# Altium footprint library Comms Board Small Footprints.PcbLib: 7 footprints
Each footprint in its own frame and in the unit in brackets; x right, y up, seen from the top. Pads: shape width x height; smd on the part's side, far side on the other; paste and mask are expansions set on the pad; w line width, h text height; cw(c..) or ccw(c..) is an arc to the next point about the centre after c.
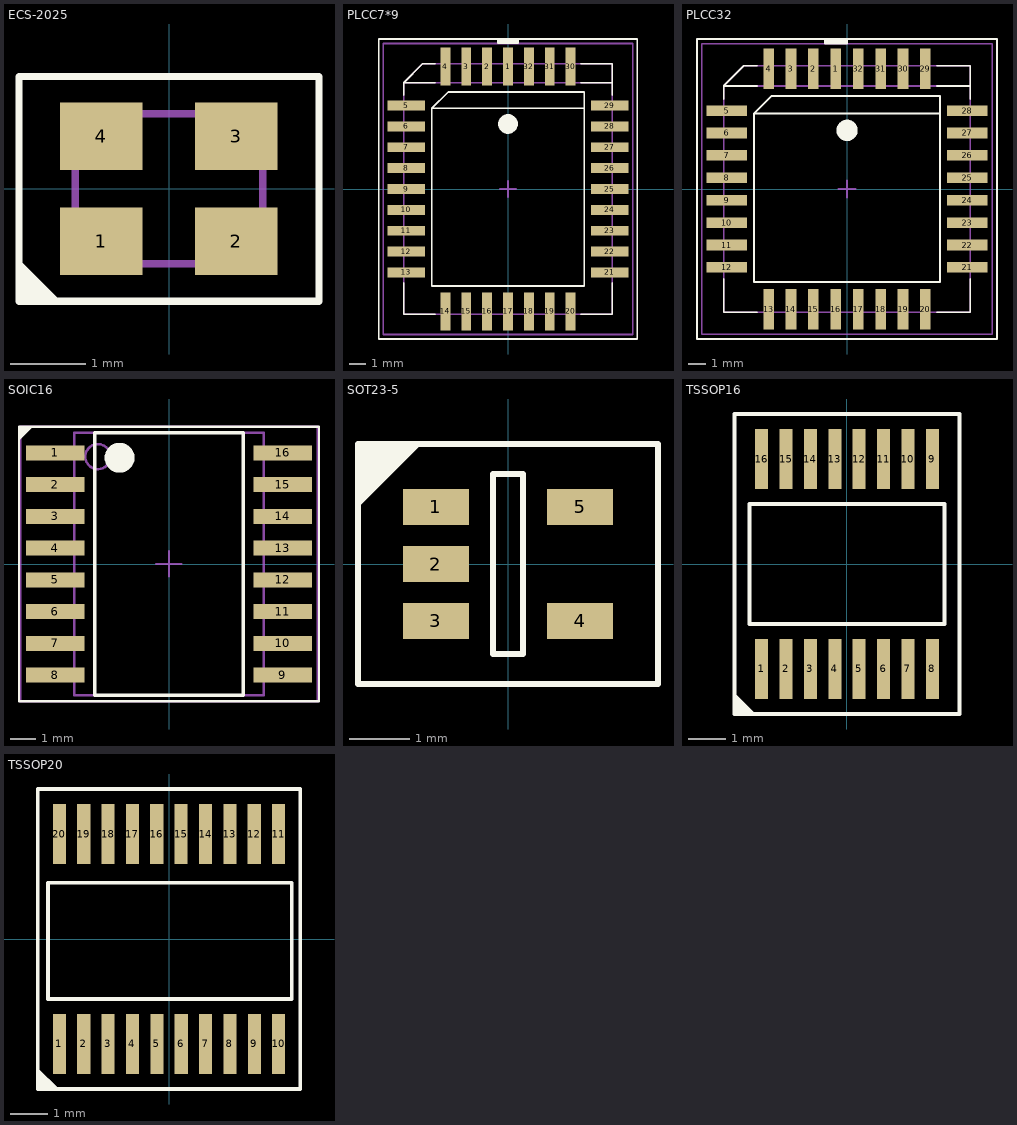
[diagram p0: the footprints below, top view; thin cyan lines are the x and y axes]

## ECS-2025 [mm] "SMD Clock Oscillator"
pads (4):
  rect 1.1x0.9 smd: 1(-0.9,-0.7) 2(0.9,-0.7) 3(0.9,0.7) 4(-0.9,0.7)
Top Overlay:
  region: -2,-1 -2,-1.5 -1.5,-1.5
  lines w0.1: -2,-1 -1.5,-1.5 ; -2,-1.5 -2,1.5 2,1.5 2,-1.5 -2,-1.5
Mechanical 13:
  lines w0.1: -1.25,-1 1.25,-1 1.25,1 -1.25,1 -1.25,-1
3D body: height 0.9, standoff 0.05, extent -1.25,-1 1.25,1

## PLCC7*9 [mm] "PLCC, 32-Leads, Body 15.1x15.1mm (max), Pitch 1.270mm, IPC Medium Density"
height 3.556
pads (32):
  rect 0.6x2.3 smd: 1(0,7.46) 2(-1.27,7.46) 3(-2.54,7.46) 4(-3.81,7.46) 14(-3.81,-7.46) 15(-2.54,-7.46) 16(-1.27,-7.46) 17(0,-7.46) 18(1.27,-7.46) 19(2.54,-7.46) 20(3.81,-7.46) 30(3.81,7.46) 31(2.54,7.46) 32(1.27,7.46)
  rect 2.3x0.6 smd: 5(-6.19,5.08) 6(-6.19,3.81) 7(-6.19,2.54) 8(-6.19,1.27) 9(-6.19,0) 10(-6.19,-1.27) 11(-6.19,-2.54) 12(-6.19,-3.81) 13(-6.19,-5.08) 21(6.19,-5.08) 22(6.19,-3.81) 23(6.19,-2.54) 24(6.19,-1.27) 25(6.19,0) 26(6.19,1.27) 27(6.19,2.54) 28(6.19,3.81) 29(6.19,5.08)
Top Overlay:
  circle w0.6: c0,3.96 r0.3
  region: 0.635,8.885 0.635,9.135 -0.615,9.135 -0.615,8.885
  lines w0.1: -6.35,-5.715 -6.35,-7.62 -4.445,-7.62 ; -6.35,5.715 -6.35,6.477 ; -4.445,6.477 -6.35,6.477 ; -4.445,7.62 -5.207,7.62 -6.35,6.477 ; 4.445,-7.62 6.35,-7.62 6.35,-5.715 ; 4.445,6.477 6.35,6.477 ; 4.445,7.62 6.35,7.62 6.35,5.715 ; 4.615,4.91 -4.64,4.91 ; -4.64,4.91 -3.64,5.91 ; -4.64,4.91 -3.64,5.91 ; -4.64,4.91 -4.64,-5.91 4.64,-5.91 4.64,5.91 -3.64,5.91 ; -7.865,-9.135 7.865,-9.135 7.865,9.135 -7.865,9.135 -7.865,-9.135 ; -0.615,8.885 -0.615,9.135 0.635,9.135 0.635,8.885 -0.615,8.885
Mechanical 13:
  lines w0.1: 6.35,6.477 -6.35,6.477 ; -6.35,6.477 -5.207,7.62 6.35,7.62 6.35,-7.62 -6.35,-7.62 -6.35,6.477
Mechanical 15:
  lines w0.1: -0.492,0 0.508,0 ; 0,-0.5 0,0.5 ; -7.59,-8.86 7.59,-8.86 7.59,8.86 -7.59,8.86 -7.59,-8.86
3D body: height 3.56, standoff 0.38, extent -6.35,-7.62 6.35,7.62

## PLCC32 [mm] "PLCC, 32-Leads, Body 15.1x15.1mm (max), Pitch 1.270mm, IPC Medium Density"
height 3.556
pads (32):
  rect 0.6x2.3 smd: 1(-0.635,6.825) 2(-1.905,6.825) 3(-3.175,6.825) 4(-4.445,6.825) 13(-4.445,-6.825) 14(-3.175,-6.825) 15(-1.905,-6.825) 16(-0.635,-6.825) 17(0.635,-6.825) 18(1.905,-6.825) 19(3.175,-6.825) 20(4.445,-6.825) 29(4.445,6.825) 30(3.175,6.825) 31(1.905,6.825) 32(0.635,6.825)
  rect 2.3x0.6 smd: 5(-6.825,4.445) 6(-6.825,3.175) 7(-6.825,1.905) 8(-6.825,0.635) 9(-6.825,-0.635) 10(-6.825,-1.905) 11(-6.825,-3.175) 12(-6.825,-4.445) 21(6.825,-4.445) 22(6.825,-3.175) 23(6.825,-1.905) 24(6.825,-0.635) 25(6.825,0.635) 26(6.825,1.905) 27(6.825,3.175) 28(6.825,4.445)
Top Overlay:
  circle w0.6: c0,3.325 r0.3
  region: 0,8.25 0,8.5 -1.25,8.5 -1.25,8.25
  lines w0.1: -6.985,-5.08 -6.985,-6.985 -5.08,-6.985 ; -6.985,5.08 -6.985,5.842 ; -5.08,5.842 -6.985,5.842 ; -5.08,6.985 -5.842,6.985 -6.985,5.842 ; 5.08,-6.985 6.985,-6.985 6.985,-5.08 ; 5.08,5.842 6.985,5.842 ; 5.08,6.985 6.985,6.985 6.985,5.08 ; 5.275,4.275 -5.275,4.275 ; -5.275,4.275 -4.275,5.275 5.275,5.275 5.275,-5.275 -5.275,-5.275 -5.275,4.275 ; -8.5,-8.5 -8.5,8.5 8.5,8.5 8.5,-8.5 -8.5,-8.5 ; -1.25,8.25 -1.25,8.5 0,8.5 0,8.25 -1.25,8.25
Mechanical 13:
  lines w0.1: 6.985,5.842 -6.985,5.842 ; -6.985,5.842 -5.842,6.985 6.985,6.985 6.985,-6.985 -6.985,-6.985 -6.985,5.842
Mechanical 15:
  lines w0.1: -0.5,0 0.5,0 ; 0,-0.5 0,0.5 ; -8.225,-8.225 8.225,-8.225 8.225,8.225 -8.225,8.225 -8.225,-8.225
3D body: height 3.56, standoff 0.38, extent -6.985,-6.985 6.985,6.985

## SOIC16 [mm] "SOIC, 16-Leads, Body 10.5x7.6mm (max), Pitch 1.27mm, IPC Medium Density"
height 2.67
pads (16):
  rect 2.35x0.6 smd: 1(-4.55,4.445) 2(-4.55,3.175) 3(-4.55,1.905) 4(-4.55,0.635) 5(-4.55,-0.635) 6(-4.55,-1.905) 7(-4.55,-3.175) 8(-4.55,-4.445) 9(4.55,-4.445) 10(4.55,-3.175) 11(4.55,-1.905) 12(4.55,-0.635) 13(4.55,0.635) 14(4.55,1.905) 15(4.55,3.175) 16(4.55,4.445)
Top Overlay:
  circle w0.6: c-1.975,4.25 r0.3
  region: -5.5,5.5 -6,5.5 -6,5
  lines w0.1: -6,5 -5.5,5.5 ; -6,-5.5 -6,5.5 6,5.5 6,-5.5 -6,-5.5
  lines w0.15: -2.975,-5.25 2.975,-5.25 2.975,5.25 -2.975,5.25 -2.975,-5.25
Mechanical 13:
  circle w0.1: c-2.845,4.295 r0.5
  lines w0.1: -3.795,-5.245 3.795,-5.245 3.795,5.245 -3.795,5.245 -3.795,-5.245
Mechanical 15:
  lines w0.1: -0.5,0 0.5,0 ; 0,-0.5 0,0.5 ; -5.95,-5.5 5.95,-5.5 5.95,5.5 -5.95,5.5 -5.95,-5.5
3D body: height 2.67, standoff 0.08, extent -3.795,-5.245 3.795,5.245

## SOT23-5 [mm] "SOT23, 5-Leads, Body 3.0x3.0mm (max), Pitch 0.95mm, IPC Medium Density"
height 1.45
pads (5):
  rect 1.1x0.6 smd: 1(-1.2,0.95) 2(-1.2,0) 3(-1.2,-0.95) 4(1.2,-0.95) 5(1.2,0.95)
Top Overlay:
  region: -2.5,1 -2.5,2 -1.5,2
  lines w0.1: -2.5,1 -1.5,2 ; -2.5,-2 2.5,-2 2.5,2 -2.5,2 -2.5,-2 ; -0.25,-1.5 -0.25,1.5 0.25,1.5 0.25,-1.5 -0.25,-1.5
3D body: height 1.45, standoff 0, extent -0.85,-1.5 0.85,1.5

## TSSOP16 [mm] "Thin Small Outline Package"
pads (16):
  rect 0.35x1.6 smd: 1(-2.275,-2.8) 2(-1.625,-2.8) 3(-0.975,-2.8) 4(-0.325,-2.8) 5(0.325,-2.8) 6(0.975,-2.8) 7(1.625,-2.8) 8(2.275,-2.8) 9(2.275,2.8) 10(1.625,2.8) 11(0.975,2.8) 12(0.325,2.8) 13(-0.325,2.8) 14(-0.975,2.8) 15(-1.625,2.8) 16(-2.275,2.8)
Top Overlay:
  region: -2.5,-4 -3,-3.5 -3,-4
  lines w0.1: -3,-3.5 -2.5,-4 ; -3,-4 3,-4 3,4 -3,4 -3,-4 ; -2.6,-1.6 2.6,-1.6 2.6,1.6 -2.6,1.6 -2.6,-1.6
3D body: height 1.2, standoff 0, extent -2.55,-2.25 2.55,2.25

## TSSOP20 [mm] "Thin Small Outline Package"
pads (20):
  rect 0.35x1.6 smd: 1(-2.925,-2.8) 2(-2.275,-2.8) 3(-1.625,-2.8) 4(-0.975,-2.8) 5(-0.325,-2.8) 6(0.325,-2.8) 7(0.975,-2.8) 8(1.625,-2.8) 9(2.275,-2.8) 10(2.925,-2.8) 11(2.925,2.8) 12(2.275,2.8) 13(1.625,2.8) 14(0.975,2.8) 15(0.325,2.8) 16(-0.325,2.8) 17(-0.975,2.8) 18(-1.625,2.8) 19(-2.275,2.8) 20(-2.925,2.8)
Top Overlay:
  region: -3.5,-3.5 -3,-4 -3.5,-4
  lines w0.1: -3.5,-3.5 -3,-4 ; -3.5,-4 -3.5,4 3.5,4 3.5,-4 -3.5,-4 ; -3.225,-1.6 -3.225,1.5 3.275,1.5 3.275,-1.6 -3.225,-1.6
3D body: height 1.2, standoff 0, extent -3.2,-2.25 3.25,2.25